# EAGLE library part LIDAR_VL53L0X_ATK (library Z)
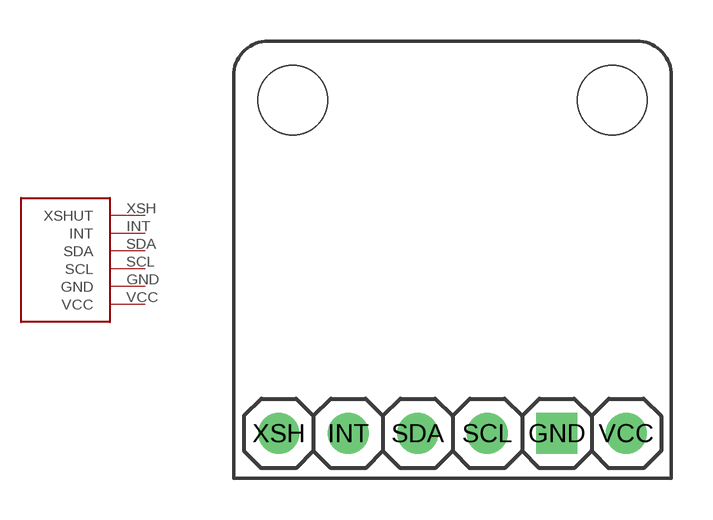
[diagram p1: symbol with the pads of LIDAR_VL53L0X_ATK; footprint LIDAR_VL53L0X_ATK]

Designator prefix -

## LIDAR_VL53L0X_ATK  [LIDAR_VL53L0X_ATK]
GND  GND
INT  INT
SCL  SCL
SDA  SDA
VCC  VCC
XSH  XSHUT

## Footprint LIDAR_VL53L0X_ATK (pad centres in mm)
drill 1 square: GND 12.7,2.54
drill 1: INT 5.08,2.54; SCL 10.16,2.54; SDA 7.62,2.54; VCC 15.24,2.54; XSH 2.54,2.54
hole 2.54 at 3.048,14.732
hole 2.54 at 14.732,14.732